# Altium schematic symbol library 502570-0893.SchLib: 1 symbol
Pins are listed as number, name and electrical type; pins without a type are passive.

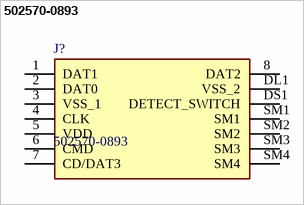
[diagram p0: symbol 502570-0893]

## 502570-0893
designator J?
Memory Card Connectors MICRO SD CARD CONN NORM SMT PUSH-PUSH; Manufacturer_Name: Molex; Geometry.Height: 1.95mm; Mouser Part Number: 538-502570-0893; Mouser Price/Stock: https://www.mouser.co.uk/ProductDetail/Molex/502570-0893?qs=xbccQsLEe0eiL%252BVgS3E4nA%3D%3D; Manufacturer_Part_Number: 502570-0893; Datasheet Link: https://componentsearchengine.com/Datasheets/2/502570-0893.pdf
footprint 5025700893
pins: 1 DAT1, 2 DAT0, 3 VSS_1, 4 CLK, 5 VDD, 6 CMD, 7 CD/DAT3, 8 DAT2, DL1 VSS_2, DS1 DETECT_SWITCH, SM1, SM2, SM3, SM4